# EAGLE library part LM2664M6/NOPB (library LM2664M6NOPB)
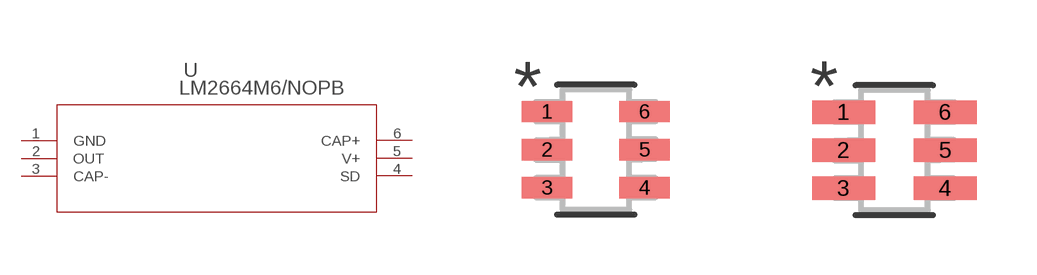
[diagram p0: symbol with the pads of MF06A; footprints MF06A, MF06A-M]

Designator prefix U

## LM2664M6/NOPB (MANUFACTURER_PART_NUMBER: LM2664M6NOPB; VENDOR: Texas Instruments)  [MF06A]
1  GND  pas
2  OUT  out
3  CAP-  pas
4  SD  pas
5  V+  in
6  CAP+  pas

## LM2664M6/NOPBMF06A-M (MANUFACTURER_PART_NUMBER: LM2664M6NOPB; VENDOR: Texas Instruments)  [MF06A-M]
Pads as for MF06A

## LM2664M6/NOPBMF06A-L (MANUFACTURER_PART_NUMBER: LM2664M6NOPB; VENDOR: Texas Instruments)  [MF06A-L]
Pads as for MF06A

## Footprint MF06A (pad centres in mm)
smd 1.27 x 0.533: 1 -1.219,0.953; 2 -1.219,0; 3 -1.219,-0.953; 4 1.219,-0.953; 5 1.219,0; 6 1.219,0.953

## Footprint MF06A-M (pad centres in mm)
smd 1.575 x 0.584: 1 -1.27,0.953; 2 -1.27,0; 3 -1.27,-0.953; 4 1.27,-0.953; 5 1.27,0; 6 1.27,0.953

## Footprint MF06A-L (pad centres in mm)
smd 0.965 x 0.483: 1 -1.168,0.953; 2 -1.168,0; 3 -1.168,-0.953; 4 1.168,-0.953; 5 1.168,0; 6 1.168,0.953